# Altium schematic symbol library Microchip I2C Temperature Sensor.SchLib: 1 symbol
Pins are listed as number, name and electrical type; pins without a type are passive.

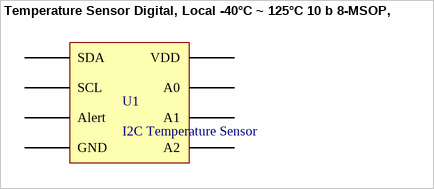
[diagram p0: symbol Temperature Sensor Digital, Local -40°C ~ 125°C 10 b 8-MSOP, Digikey; MCP9808T-E/MSCT-ND Mfg; MCP9808T-E/MS]

## Temperature Sensor Digital, Local -40°C ~ 125°C 10 b 8-MSOP, Digikey; MCP9808T-E/MSCT-ND Mfg; MCP9808T-E/MS
designator U1, comment I2C Temperature Sensor
footprint SENSOR TEMP I2C/SMBUS 8MSOP (Temperature Sensor Digital, Local -40°C ~ 125°C 10 b 8-MSOP, Digikey; MCP9808T-E/MSCT-ND Mfg; MCP9808T-E/MS)
pins: 1 SDA, 2 SCL, 3 Alert, 4 GND, 5 A2, 6 A1, 7 A0, 8 VDD